# EAGLE library part WE-TVS-SS_DFN3810-9L_824014881 (library 82400102_Eagle_WE-TVS_rev19a)
WE-TVS TVS Diode – Super Speed Series Characteristics Fast turn-on Low clamping voltage Very low capacitance Rail to Rail protection Small package Epoxy flame resistant UL94-V0 Applications Super Speed data lines HDMI 1.3/1.4/2.0, DVI DisplayPort USB 3.1 Gen 1 (5Gb/s) SATA and eSATA GBit LAN Thunderbolt LVDS ESD protection in accordance with EN 61000-4-2 – 8 kV contact discharge – 15 kV air discharge SS = Super Speed <https://katalog.we-online.com/media/images/v2/o106434v209%20Family_WE-TVS-SuperSpeed.jpg> Details see: https://katalog.we-online.com/en/pbs/WE-TVS-SS Updated by Ella Wu 2019-07-12 2019 (C) Wurth Elektronik
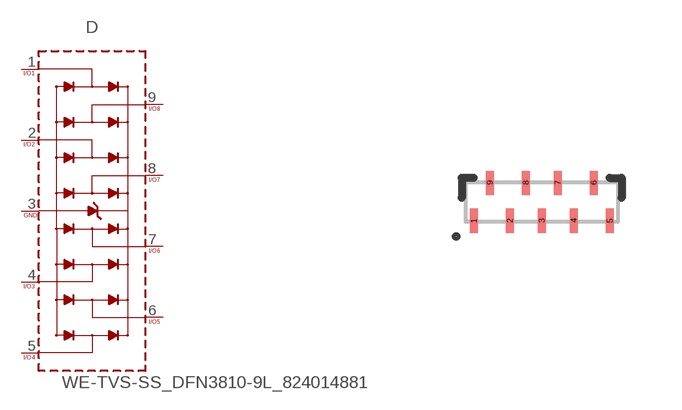
[diagram p4: symbol with the pads of WE-TVS_DFN3810-9L; footprint WE-TVS_DFN3810-9L]

Designator prefix D

## WE-TVS-SS_DFN3810-9L_824014881 (C-CH: 0.35pF; CHANNELS: 8; DATASHEET-URL: https://katalog.we-online.com/pbs/datasheet/824014881.pdf; IPEAK: 4A; MOUNT: SMT; PART-NUMBER: 824014881; VALUE: 1.2Vdc; VBR: 4.5V)  [WE-TVS_DFN3810-9L]
1  1
2  2
3  GND
4  4
5  5
6  6
7  7
8  8
9  9

## Footprint WE-TVS_DFN3810-9L (pad centres in mm)
WE-TVS TVS Diode Size: DFN3810-9L L X W X H = 3.8mm X 1mm X 0.5mm
smd 0.2 x 0.6: 1 -1.7,-0.475; 2 -0.8,-0.475; 3 0,-0.475; 4 0.8,-0.475; 5 1.7,-0.475; 6 1.3,0.475; 7 0.4,0.475; 8 -0.4,0.475; 9 -1.3,0.475